# EAGLE library part ATSAMD21G18A-AUT (library CASE-MCU)
SAMD21G18A-AUT Description: SAMD21G18A-AUT from Microship SAM D2 series (Arm Cortex M0+) Links: Datasheet <http://ww1.microchip.com/downloads/en/DeviceDoc/SAMD21-Family-DataSheet-DS40001882D.pdf> Website <https://www.microchip.com/wwwproducts/en/ATsamd21g18> Arduino Zero <https://store.arduino.cc/genuino-zero> Arduino MKR Zero <https://store.arduino.cc/arduino-mkrzero> Arduino MKR WIFI 1010 <https://store.arduino.cc/arduino-mkr-wifi-1010>
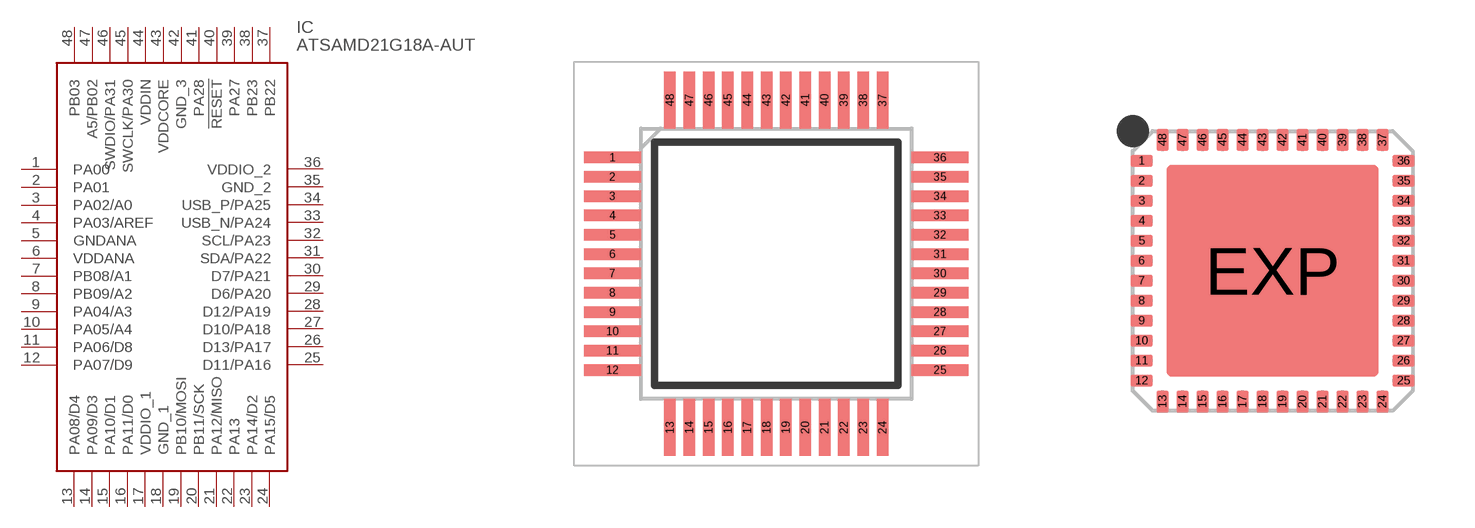
[diagram p11: symbol with the pads of QFP50P900X900X120-48N; footprints QFP50P900X900X120-48N, QFN48]

Designator prefix IC

## ATSAMD21G18A-AUTTQFP48 (DESCRIPTION: MICROCHIP - ATSAMD21G18A-AUT - MCU, ARM CORTEX-M0+, 48MHZ, TQFP-48; HEIGHT: 1.2mm; MANUFACTURER_NAME: Microchip; MANUFACTURER_PART_NUMBER: ATSAMD21G18A-AUT; MOUSER_PART_NUMBER: 556-ATSAMD21G18A-AUT)  [QFP50P900X900X120-48N]
1  PA00
2  PA01
3  PA02/A0
4  PA03/AREF
5  GNDANA
6  VDDANA
7  PB08/A1
8  PB09/A2
9  PA04/A3
10  PA05/A4
11  PA06/D8
12  PA07/D9
13  PA08/D4
14  PA09/D3
15  PA10/D1
16  PA11/D0
17  VDDIO_1
18  GND_1
19  PB10/MOSI
20  PB11/SCK
21  PA12/MISO
22  PA13
23  PA14/D2
24  PA15/D5
25  D11/PA16
26  D13/PA17
27  D10/PA18
28  D12/PA19
29  D6/PA20
30  D7/PA21
31  SDA/PA22
32  SCL/PA23
33  USB_N/PA24
34  USB_P/PA25
35  GND_2
36  VDDIO_2
37  PB22
38  PB23
39  PA27
40  !RESET
41  PA28
42  GND_3
43  VDDCORE
44  VDDIN
45  SWCLK/PA30
46  SWDIO/PA31
47  A5/PB02
48  PB03

## ATSAMD21G18A-AUTQFN48  [QFN48]
Pads as for QFP50P900X900X120-48N

## Footprint QFP50P900X900X120-48N (pad centres in mm)
TQFP 48_1
smd 1.475 x 0.3: 1 -4.238,2.75; 2 -4.238,2.25; 3 -4.238,1.75; 4 -4.238,1.25; 5 -4.238,0.75; 6 -4.238,0.25; 7 -4.238,-0.25; 8 -4.238,-0.75; 9 -4.238,-1.25; 10 -4.238,-1.75; 11 -4.238,-2.25; 12 -4.238,-2.75; 25 4.238,-2.75; 26 4.238,-2.25; 27 4.238,-1.75; 28 4.238,-1.25; 29 4.238,-0.75; 30 4.238,-0.25; 31 4.238,0.25; 32 4.238,0.75; 33 4.238,1.25; 34 4.238,1.75; 35 4.238,2.25; 36 4.238,2.75
smd 0.3 x 1.475: 13 -2.75,-4.238; 14 -2.25,-4.238; 15 -1.75,-4.238; 16 -1.25,-4.238; 17 -0.75,-4.238; 18 -0.25,-4.238; 19 0.25,-4.238; 20 0.75,-4.238; 21 1.25,-4.238; 22 1.75,-4.238; 23 2.25,-4.238; 24 2.75,-4.238; 37 2.75,4.238; 38 2.25,4.238; 39 1.75,4.238; 40 1.25,4.238; 41 0.75,4.238; 42 0.25,4.238; 43 -0.25,4.238; 44 -0.75,4.238; 45 -1.25,4.238; 46 -1.75,4.238; 47 -2.25,4.238; 48 -2.75,4.238

## Footprint QFN48 (pad centres in mm)
48-pin QFN 7 x 7 mm LF48 48 Quad Flat Package No Leads Source: http://v4.cypress.com/cfuploads/img/products/cywusb6934.pdf
smd 0.55 x 0.3: 1 -3.275,2.75; 2 -3.275,2.25; 3 -3.275,1.75; 4 -3.275,1.25; 5 -3.275,0.75; 6 -3.275,0.25; 7 -3.275,-0.25; 8 -3.275,-0.75; 9 -3.275,-1.25; 10 -3.275,-1.75; 11 -3.275,-2.25; 12 -3.275,-2.75; 25 3.275,-2.75; 26 3.275,-2.25; 27 3.275,-1.75; 28 3.275,-1.25; 29 3.275,-0.75; 30 3.275,-0.25; 31 3.275,0.25; 32 3.275,0.75; 33 3.275,1.25; 34 3.275,1.75; 35 3.275,2.25; 36 3.275,2.75
smd 0.3 x 0.55: 13 -2.75,-3.275; 14 -2.25,-3.275; 15 -1.75,-3.275; 16 -1.25,-3.275; 17 -0.75,-3.275; 18 -0.25,-3.275; 19 0.25,-3.275; 20 0.75,-3.275; 21 1.25,-3.275; 22 1.75,-3.275; 23 2.25,-3.275; 24 2.75,-3.275; 37 2.75,3.275; 38 2.25,3.275; 39 1.75,3.275; 40 1.25,3.275; 41 0.75,3.275; 42 0.25,3.275; 43 -0.25,3.275; 44 -0.75,3.275; 45 -1.25,3.275; 46 -1.75,3.275; 47 -2.25,3.275; 48 -2.75,3.275
smd 5.309 x 5.309: EXP 0,0